# EAGLE library part LM2901D (library PacMan)
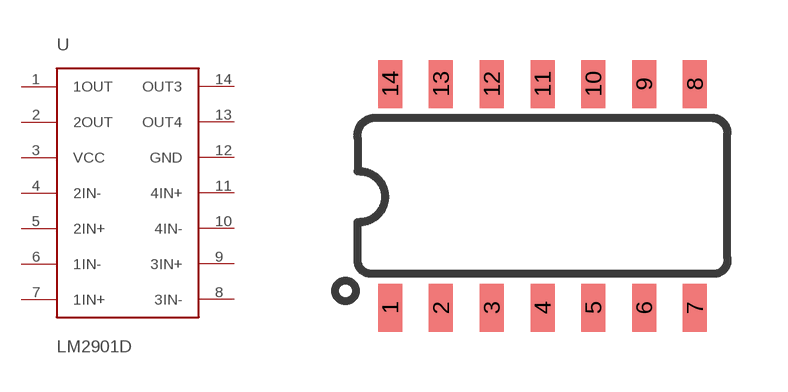
[diagram p0: symbol with the pads of SO14; footprint SO14]

Designator prefix -

## LM2901DSO-14  [SO14]
1  1OUT
2  2OUT
3  VCC
4  2IN-
5  2IN+
6  1IN-
7  1IN+
8  3IN-
9  3IN+
10  4IN-
11  4IN+
12  GND
13  OUT4
14  OUT3

## Footprint SO14 (pad centres in mm)
SOIC, 0.15 inch width
smd 0.6 x 1.2: 1 -3.175,-2.8; 2 -1.905,-2.8; 3 -0.635,-2.8; 4 0.635,-2.8; 5 1.905,-2.8; 6 3.175,-2.8; 7 4.445,-2.8; 8 4.445,2.8; 9 3.175,2.8; 10 1.905,2.8; 11 0.635,2.8; 12 -0.635,2.8; 13 -1.905,2.8; 14 -3.175,2.8